# Altium footprint library Trinks_PcbLib1.PcbLib: 3 footprints
Each footprint in its own frame and in the unit in brackets; x right, y up, seen from the top. Pads: shape width x height; smd on the part's side, far side on the other; paste and mask are expansions set on the pad; w line width, h text height; cw(c..) or ccw(c..) is an arc to the next point about the centre after c.
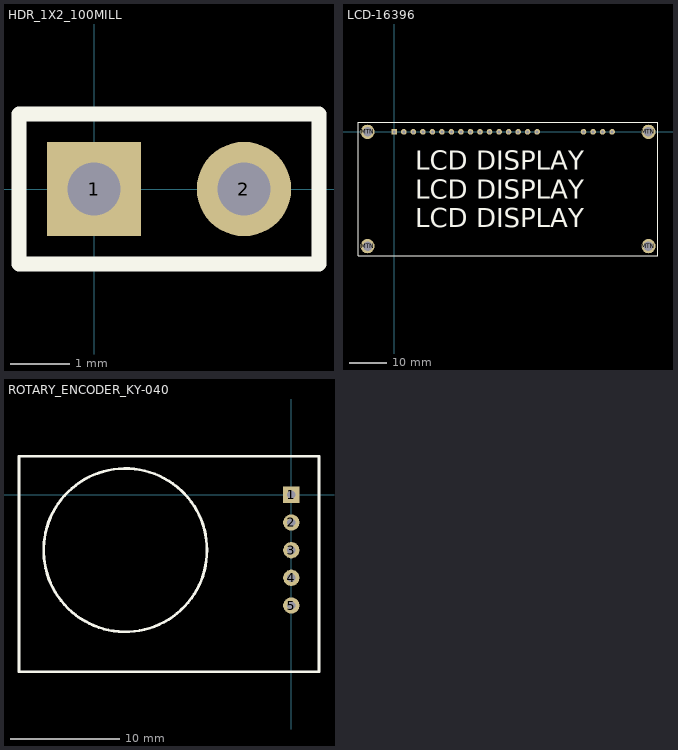
[diagram p0: the footprints below, top view; thin cyan lines are the x and y axes]

## HDR_1X2_100MILL [mm] "SINGLE ROW 2 PIN HDR 2.54MM"
height 10.16
pads (2):
  rect 1.6x1.6 hole 0.9: 1(0,0)
  round 1.6 hole 0.9: 2(2.54,0)
Top Overlay:
  lines w0.254: -1.27,-1.27 -1.27,1.27 3.81,1.27 3.81,-1.27 -1.27,-1.27
3D body: height 8.57, standoff -2.97, extent -1.24,-1.27 3.84,1.27

## LCD-16396 [mm] "LCD 16X2"
pads (24):
  rect 1.5x1.5 hole 0.75: 1(0,0)
  round 1.5 hole 0.75: 2(2.54,0) 3(5.08,0) 4(7.62,0) 5(10.16,0) 6(12.7,0) 7(15.24,0) 8(17.78,0) 9(20.32,0) 10(22.86,0) 11(25.4,0) 12(27.94,0) 13(30.48,0) 14(33.02,0) 15(35.56,0) 16(38.1,0) 17(50.47,0) 18(53.01,0) 19(55.55,0) 20(58.09,0)
  round 3.81 hole 2.54: MTN(-7.137,-30.48) MTN(-7.137,0) MTN(67.793,-30.48) MTN(67.793,0)
Top Overlay:
  lines w0.254: -9.677,-33.02 70.333,-33.02 70.333,2.54 -9.677,2.54 -9.677,-33.02
  text "LCD DISPLAY" at 5.563,-10.16 h5.08
  text "LCD DISPLAY" at 5.563,-25.4 h5.08
  text "LCD DISPLAY" at 5.563,-17.78 h5.08

## ROTARY_ENCODER_KY-040 [mm]
pads (5):
  rect 1.5x1.5 hole 0.75: 1(0,0)
  round 1.5 hole 0.75: 2(0,-2.54) 3(0,-5.08) 4(0,-7.62) 5(0,-10.16)
Top Overlay:
  circle w0.254: c-15.24,-5.08 r7.5
  lines w0.254: -25,-16.24 -25,3.54 2.54,3.54 2.54,-16.24 -25,-16.24